# EAGLE library part 1MMCON (library 9P_1.25mmCON)
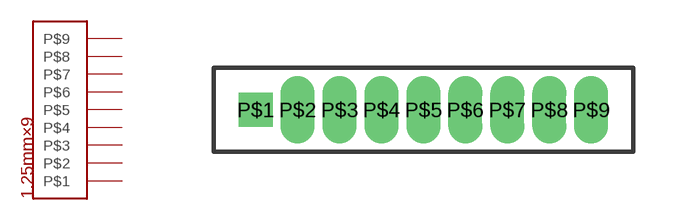
[diagram p0: symbol with the pads of 1MMCON; footprint 1MMCON]

Designator prefix -

## 1MMCON  [1MMCON]
P$1  P$1
P$2  P$2
P$3  P$3
P$4  P$4
P$5  P$5
P$6  P$6
P$7  P$7
P$8  P$8
P$9  P$9

## Footprint 1MMCON (pad centres in mm)
drill 0.5 square: P$1 0,0
drill 0.5 long: P$2 1.25,0; P$3 2.5,0; P$4 3.75,0; P$5 5,0; P$6 6.25,0; P$7 7.5,0; P$8 8.75,0; P$9 10,0